# Altium schematic symbol library SCH - INTERFACE - SPI - SN74AVC4T774RSVR.SCHLIB: 1 symbol
Pins are listed as number, name and electrical type; pins without a type are passive.

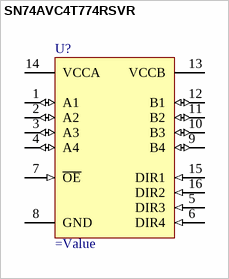
[diagram p0: symbol SN74AVC4T774RSVR]

## SN74AVC4T774RSVR
designator U?
4-Bit Dual-Supply Bus Transceiver With Configurable Voltage-Level Shifting and 3-State Outputs With Independent Direction Control Inputs
pins: 1 A1 (io), 2 A2 (io), 3 A3 (io), 4 A4 (io), 5 DIR3 (in), 6 DIR4 (in), 7 ~{OE} (in), 8 GND (power), 9 B4 (io), 10 B3 (io), 11 B2 (io), 12 B1 (io), 13 VCCB (power), 14 VCCA (power), 15 DIR1 (in), 16 DIR2 (in)